# Altium schematic symbol library SGM2030.SchLib: 1 symbol
Pins are listed as number, name and electrical type; pins without a type are passive.

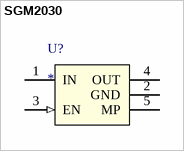
[diagram p0: symbol SGM2030]

## SGM2030
designator U?
Low Power, Low Dropout,  RF-Linear Regulators
pins: 1 IN (power), 2 GND (power), 3 EN (in), 4 OUT (power), 5 MP (power)